# EAGLE library part L80-R_L80-R (library GPS-IoT-Mezzanine)
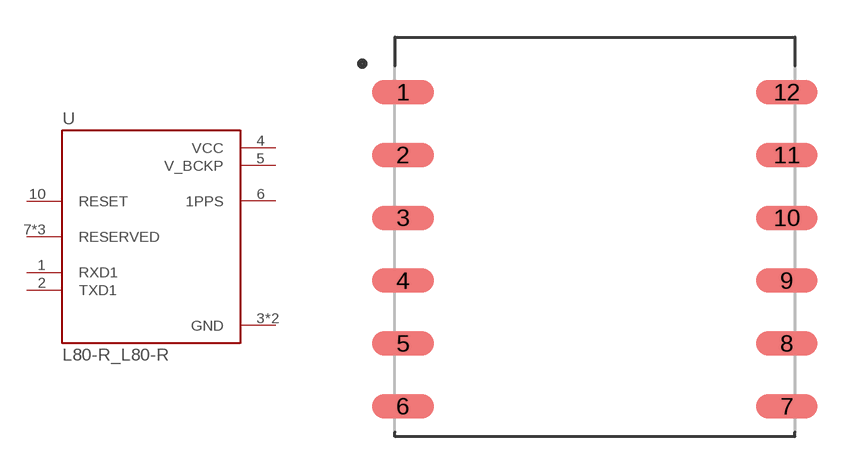
[diagram p1: symbol with the pads of L80-R_XCVR_L80-R; footprint L80-R_XCVR_L80-R]

Designator prefix U

## L80-R_L80-R (AVAILABILITY: Unavailable; DESCRIPTION: L80-R is an ultra compact GPS POT (Patch on Top) module with an embedded 15.0mm × 15.0mm × 4.0mm patch antenna; MF: Quectel; MP: L80-R; PACKAGE: None; PRICE: None)  [L80-R_XCVR_L80-R]
1  RXD1  in
2  TXD1  out
3  GND  pwr
4  VCC  pwr
5  V_BCKP  pwr
6  1PPS  out
7  RESERVED  in
8  RESERVED  in
10  RESET  in
11  RESERVED  in
12  GND  pwr

## Footprint L80-R_XCVR_L80-R (pad centres in mm)
smd 2.5 x 1: 1 -7.75,6.35; 2 -7.75,3.81; 3 -7.75,1.27; 4 -7.75,-1.27; 5 -7.75,-3.81; 6 -7.75,-6.35; 7 7.75,-6.35; 8 7.75,-3.81; 9 7.75,-1.27; 10 7.75,1.27; 11 7.75,3.81; 12 7.75,6.35